# Altium schematic symbol library SCH - MCU - STM32 - ST MICROELECTRONICS STM32L443VCIX UFBGA100.SchLib: 1 symbol
Pins are listed as number, name and electrical type; pins without a type are passive.

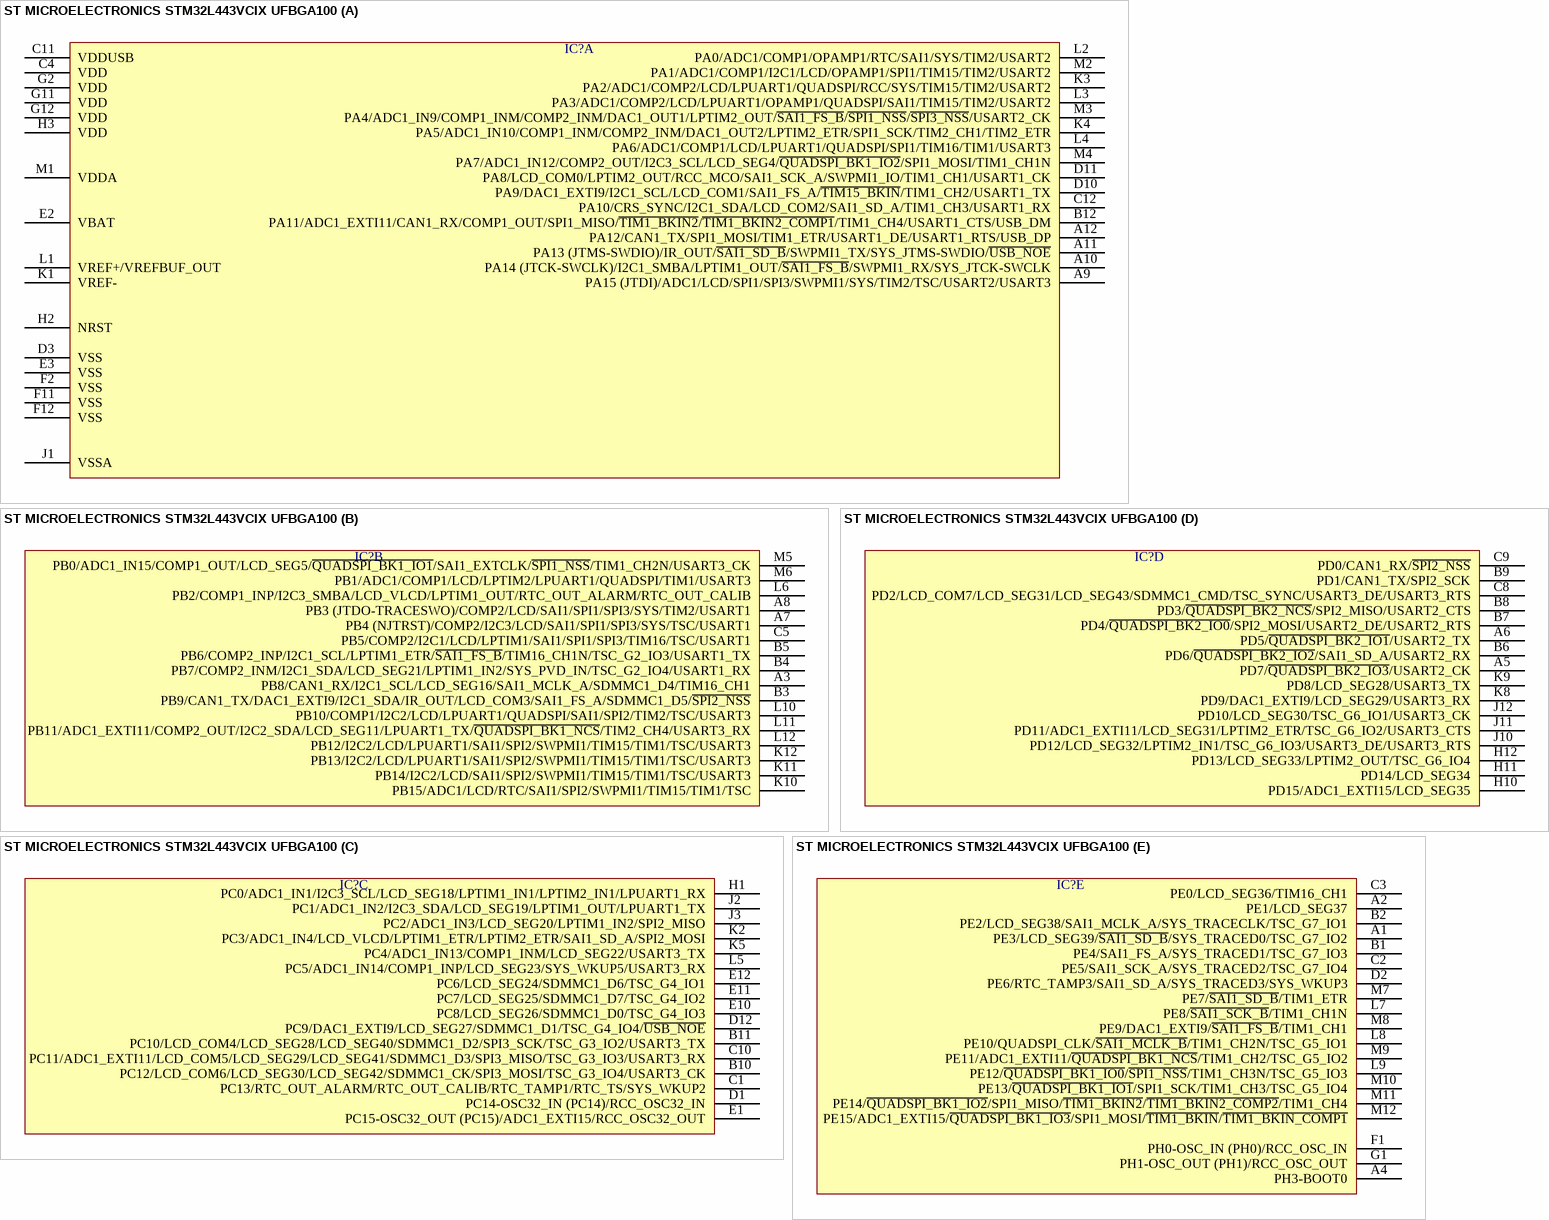
[diagram p0: symbol ST MICROELECTRONICS STM32L443VCIX UFBGA100]

## ST MICROELECTRONICS STM32L443VCIX UFBGA100
designator IC?  (value not drawn)
part A pins: A9 PA15 (JTDI)/ADC1/LCD/SPI1/SPI3/SWPMI1/SYS/TIM2/TSC/USART2/USART3, A10 PA14 (JTCK-SWCLK)/I2C1_SMBA/LPTIM1_OUT/~{SAI1_FS_B}/SWPMI1_RX/SYS_JTCK-SWCLK, A11 PA13 (JTMS-SWDIO)/IR_OUT/~{SAI1_SD_B}/SWPMI1_TX/SYS_JTMS-SWDIO/~{USB_NOE}, A12 PA12/CAN1_TX/SPI1_MOSI/TIM1_ETR/USART1_DE/USART1_RTS/USB_DP, B12 PA11/ADC1_EXTI11/CAN1_RX/COMP1_OUT/SPI1_MISO/~{TIM1_BKIN2}/~{TIM1_BKIN2_COMP1}/TIM1_CH4/USART1_CTS/USB_DM, C4 VDD, C11 VDDUSB, C12 PA10/CRS_SYNC/I2C1_SDA/LCD_COM2/SAI1_SD_A/TIM1_CH3/USART1_RX, D3 VSS, D10 PA9/DAC1_EXTI9/I2C1_SCL/LCD_COM1/SAI1_FS_A/~{TIM15_BKIN}/TIM1_CH2/USART1_TX, D11 PA8/LCD_COM0/LPTIM2_OUT/RCC_MCO/SAI1_SCK_A/SWPMI1_IO/TIM1_CH1/USART1_CK, E2 VBAT, E3 VSS, F2 VSS, F11 VSS, F12 VSS, G2 VDD, G11 VDD, G12 VDD, H2 NRST, H3 VDD, J1 VSSA, K1 VREF-, K3 PA2/ADC1/COMP2/LCD/LPUART1/QUADSPI/RCC/SYS/TIM15/TIM2/USART2, K4 PA5/ADC1_IN10/COMP1_INM/COMP2_INM/DAC1_OUT2/LPTIM2_ETR/SPI1_SCK/TIM2_CH1/TIM2_ETR, L1 VREF+/VREFBUF_OUT, L2 PA0/ADC1/COMP1/OPAMP1/RTC/SAI1/SYS/TIM2/USART2, L3 PA3/ADC1/COMP2/LCD/LPUART1/OPAMP1/QUADSPI/SAI1/TIM15/TIM2/USART2, L4 PA6/ADC1/COMP1/LCD/LPUART1/QUADSPI/SPI1/TIM16/TIM1/USART3, M1 VDDA, M2 PA1/ADC1/COMP1/I2C1/LCD/OPAMP1/SPI1/TIM15/TIM2/USART2, M3 PA4/ADC1_IN9/COMP1_INM/COMP2_INM/DAC1_OUT1/LPTIM2_OUT/~{SAI1_FS_B}/~{SPI1_NSS}/~{SPI3_NSS}/USART2_CK, M4 PA7/ADC1_IN12/COMP2_OUT/I2C3_SCL/LCD_SEG4/~{QUADSPI_BK1_IO2}/SPI1_MOSI/TIM1_CH1N
part B pins: A3 PB8/CAN1_RX/I2C1_SCL/LCD_SEG16/SAI1_MCLK_A/SDMMC1_D4/TIM16_CH1, A7 PB4 (NJTRST)/COMP2/I2C3/LCD/SAI1/SPI1/SPI3/SYS/TSC/USART1, A8 PB3 (JTDO-TRACESWO)/COMP2/LCD/SAI1/SPI1/SPI3/SYS/TIM2/USART1, B3 PB9/CAN1_TX/DAC1_EXTI9/I2C1_SDA/IR_OUT/LCD_COM3/SAI1_FS_A/SDMMC1_D5/~{SPI2_NSS}, B4 PB7/COMP2_INM/I2C1_SDA/LCD_SEG21/LPTIM1_IN2/SYS_PVD_IN/TSC_G2_IO4/USART1_RX, B5 PB6/COMP2_INP/I2C1_SCL/LPTIM1_ETR/~{SAI1_FS_B}/TIM16_CH1N/TSC_G2_IO3/USART1_TX, C5 PB5/COMP2/I2C1/LCD/LPTIM1/SAI1/SPI1/SPI3/TIM16/TSC/USART1, K10 PB15/ADC1/LCD/RTC/SAI1/SPI2/SWPMI1/TIM15/TIM1/TSC, K11 PB14/I2C2/LCD/SAI1/SPI2/SWPMI1/TIM15/TIM1/TSC/USART3, K12 PB13/I2C2/LCD/LPUART1/SAI1/SPI2/SWPMI1/TIM15/TIM1/TSC/USART3, L6 PB2/COMP1_INP/I2C3_SMBA/LCD_VLCD/LPTIM1_OUT/RTC_OUT_ALARM/RTC_OUT_CALIB, L10 PB10/COMP1/I2C2/LCD/LPUART1/QUADSPI/SAI1/SPI2/TIM2/TSC/USART3, L11 PB11/ADC1_EXTI11/COMP2_OUT/I2C2_SDA/LCD_SEG11/LPUART1_TX/~{QUADSPI_BK1_NCS}/TIM2_CH4/USART3_RX, L12 PB12/I2C2/LCD/LPUART1/SAI1/SPI2/SWPMI1/TIM15/TIM1/TSC/USART3, M5 PB0/ADC1_IN15/COMP1_OUT/LCD_SEG5/~{QUADSPI_BK1_IO1}/SAI1_EXTCLK/~{SPI1_NSS}/TIM1_CH2N/USART3_CK, M6 PB1/ADC1/COMP1/LCD/LPTIM2/LPUART1/QUADSPI/TIM1/USART3
part C pins: B10 PC12/LCD_COM6/LCD_SEG30/LCD_SEG42/SDMMC1_CK/SPI3_MOSI/TSC_G3_IO4/USART3_CK, B11 PC10/LCD_COM4/LCD_SEG28/LCD_SEG40/SDMMC1_D2/SPI3_SCK/TSC_G3_IO2/USART3_TX, C1 PC13/RTC_OUT_ALARM/RTC_OUT_CALIB/RTC_TAMP1/RTC_TS/SYS_WKUP2, C10 PC11/ADC1_EXTI11/LCD_COM5/LCD_SEG29/LCD_SEG41/SDMMC1_D3/SPI3_MISO/TSC_G3_IO3/USART3_RX, D1 PC14-OSC32_IN (PC14)/RCC_OSC32_IN, D12 PC9/DAC1_EXTI9/LCD_SEG27/SDMMC1_D1/TSC_G4_IO4/~{USB_NOE}, E1 PC15-OSC32_OUT (PC15)/ADC1_EXTI15/RCC_OSC32_OUT, E10 PC8/LCD_SEG26/SDMMC1_D0/TSC_G4_IO3, E11 PC7/LCD_SEG25/SDMMC1_D7/TSC_G4_IO2, E12 PC6/LCD_SEG24/SDMMC1_D6/TSC_G4_IO1, H1 PC0/ADC1_IN1/I2C3_SCL/LCD_SEG18/LPTIM1_IN1/LPTIM2_IN1/LPUART1_RX, J2 PC1/ADC1_IN2/I2C3_SDA/LCD_SEG19/LPTIM1_OUT/LPUART1_TX, J3 PC2/ADC1_IN3/LCD_SEG20/LPTIM1_IN2/SPI2_MISO, K2 PC3/ADC1_IN4/LCD_VLCD/LPTIM1_ETR/LPTIM2_ETR/SAI1_SD_A/SPI2_MOSI, K5 PC4/ADC1_IN13/COMP1_INM/LCD_SEG22/USART3_TX, L5 PC5/ADC1_IN14/COMP1_INP/LCD_SEG23/SYS_WKUP5/USART3_RX
part D pins: A5 PD7/~{QUADSPI_BK2_IO3}/USART2_CK, A6 PD5/~{QUADSPI_BK2_IO1}/USART2_TX, B6 PD6/~{QUADSPI_BK2_IO2}/SAI1_SD_A/USART2_RX, B7 PD4/~{QUADSPI_BK2_IO0}/SPI2_MOSI/USART2_DE/USART2_RTS, B8 PD3/~{QUADSPI_BK2_NCS}/SPI2_MISO/USART2_CTS, B9 PD1/CAN1_TX/SPI2_SCK, C8 PD2/LCD_COM7/LCD_SEG31/LCD_SEG43/SDMMC1_CMD/TSC_SYNC/USART3_DE/USART3_RTS, C9 PD0/CAN1_RX/~{SPI2_NSS}, H10 PD15/ADC1_EXTI15/LCD_SEG35, H11 PD14/LCD_SEG34, H12 PD13/LCD_SEG33/LPTIM2_OUT/TSC_G6_IO4, J10 PD12/LCD_SEG32/LPTIM2_IN1/TSC_G6_IO3/USART3_DE/USART3_RTS, J11 PD11/ADC1_EXTI11/LCD_SEG31/LPTIM2_ETR/TSC_G6_IO2/USART3_CTS, J12 PD10/LCD_SEG30/TSC_G6_IO1/USART3_CK, K8 PD9/DAC1_EXTI9/LCD_SEG29/USART3_RX, K9 PD8/LCD_SEG28/USART3_TX
part E pins: A1 PE3/LCD_SEG39/~{SAI1_SD_B}/SYS_TRACED0/TSC_G7_IO2, A2 PE1/LCD_SEG37, A4 PH3-BOOT0, B1 PE4/SAI1_FS_A/SYS_TRACED1/TSC_G7_IO3, B2 PE2/LCD_SEG38/SAI1_MCLK_A/SYS_TRACECLK/TSC_G7_IO1, C2 PE5/SAI1_SCK_A/SYS_TRACED2/TSC_G7_IO4, C3 PE0/LCD_SEG36/TIM16_CH1, D2 PE6/RTC_TAMP3/SAI1_SD_A/SYS_TRACED3/SYS_WKUP3, F1 PH0-OSC_IN (PH0)/RCC_OSC_IN, G1 PH1-OSC_OUT (PH1)/RCC_OSC_OUT, L7 PE8/~{SAI1_SCK_B}/TIM1_CH1N, L8 PE10/QUADSPI_CLK/~{SAI1_MCLK_B}/TIM1_CH2N/TSC_G5_IO1, L9 PE12/~{QUADSPI_BK1_IO0}/~{SPI1_NSS}/TIM1_CH3N/TSC_G5_IO3, M7 PE7/~{SAI1_SD_B}/TIM1_ETR, M8 PE9/DAC1_EXTI9/~{SAI1_FS_B}/TIM1_CH1, M9 PE11/ADC1_EXTI11/~{QUADSPI_BK1_NCS}/TIM1_CH2/TSC_G5_IO2, M10 PE13/~{QUADSPI_BK1_IO1}/SPI1_SCK/TIM1_CH3/TSC_G5_IO4, M11 PE14/~{QUADSPI_BK1_IO2}/SPI1_MISO/~{TIM1_BKIN2}/~{TIM1_BKIN2_COMP2}/TIM1_CH4, M12 PE15/ADC1_EXTI15/~{QUADSPI_BK1_IO3}/SPI1_MOSI/~{TIM1_BKIN}/~{TIM1_BKIN_COMP1}